# Altium schematic symbol library кварцы и генераторы.SchLib: 13 symbols
Pins are listed as number, name and electrical type; pins without a type are passive.

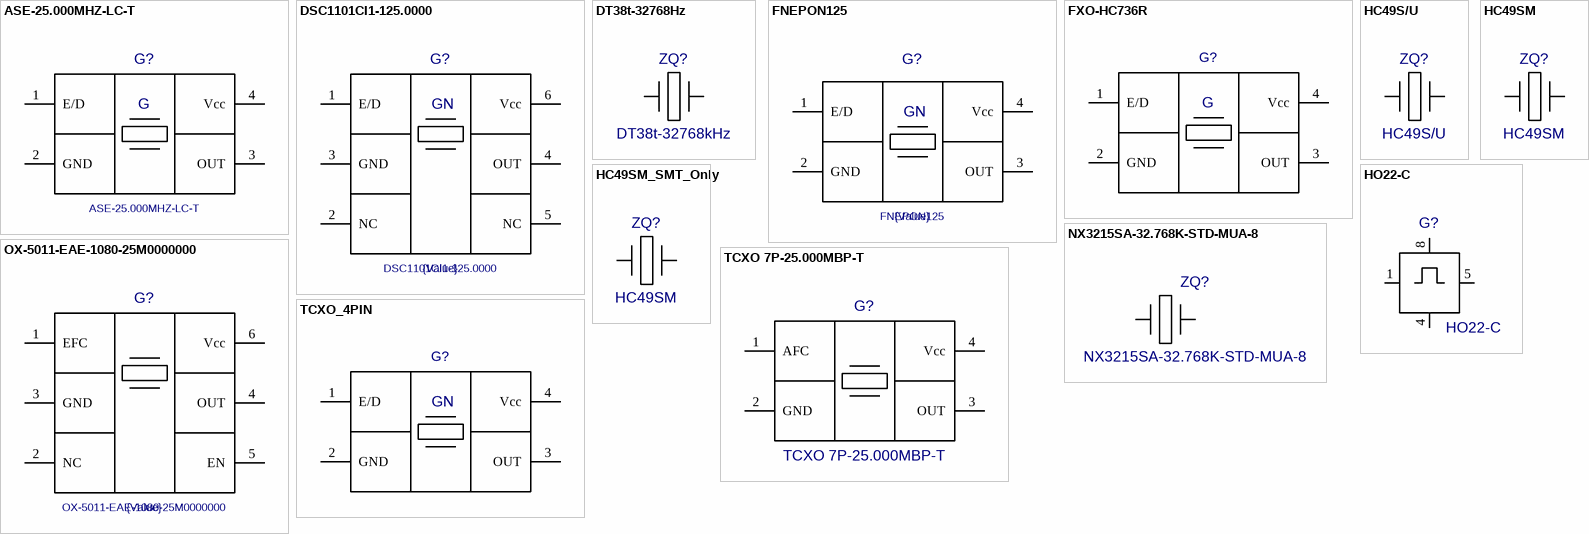
[diagram p0: symbols ASE-25.000MHZ-LC-T to TCXO_4PIN]

## ASE-25.000MHZ-LC-T
designator G?
Value: *
footprint FA-238
pins: 1 E/D, 2 GND, 3 OUT, 4 Vcc
text: G

## DSC1101CI1-125.0000
designator G?  value {Value}
footprint VDFN-6
pins: 1 E/D, 2 NC, 3 GND, 4 OUT, 5 NC, 6 Vcc
text: GN

## DT38t-32768Hz
designator ZQ?, comment DT38t-32768kHz
Value: *
footprint DT38t-32768Hz (Часовой кварцевый резонатор, корпус 8х3 мм)
pins: 1, 2

## FNEPON125
designator G?  value {Value}
footprint XO 7X5 MM
pins: 1 E/D, 2 GND, 3 OUT, 4 Vcc
text: GN

## FXO-HC736R
designator G?  (value not drawn)
Value: {Value}
footprint FXO-HC736R
pins: 1 E/D, 2 GND, 3 OUT, 4 Vcc
text: G

## HC49S/U
designator ZQ?
Value: *
footprint HC49
pins: 1, 2

## HC49SM
designator ZQ?
Value: *
footprint HC49SM
pins: 1, 2

## HC49SM_SMT_Only
designator ZQ?, comment HC49SM
Value: HC49SM
footprint HC49SM_SMT_Only
pins: 1, 2

## HO22-C
designator G?
Value: *
footprint HO22-C
pins: 1, 4, 5, 8

## NX3215SA-32.768K-STD-MUA-8
designator ZQ?
Value: 32.768kHz
footprint 1206_NX3215SA (Кварц. резонатор 1206(3216))
pins: 1, 2

## OX-5011-EAE-1080-25M0000000
designator G?  value {Value}
footprint OX-5011
pins: 1 EFC, 2 NC, 3 GND, 4 OUT, 5 EN, 6 Vcc

## TCXO 7P-25.000MBP-T
designator G?
Value: *
footprint TCXO 50X32
pins: 1 AFC, 2 GND, 3 OUT, 4 Vcc

## TCXO_4PIN
designator G?  (value not drawn)
Value: *
footprint FXO-HC736R
pins: 1 E/D, 2 GND, 3 OUT, 4 Vcc
text: GN